# Altium schematic symbol library Schlib1.SchLib: 2 symbols
Pins are listed as number, name and electrical type; pins without a type are passive.

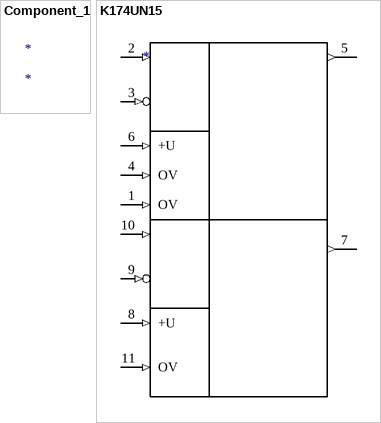
[diagram p0: symbols Component_1 to K174UN15]

## Component_1
designator *

## K174UN15
designator DA?
ComponentName: K174UN15
pins: 1 OV (in), 2 (in), 3 (in), 4 OV (in), 5 (out), 6 +U (in), 7 (out), 8 +U (in), 9 (in), 10 (in), 11 OV (in)